# EAGLE library part SPH0645LM4H-B (library Knowles)
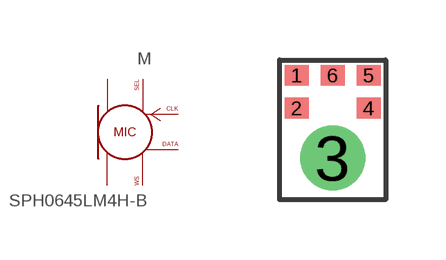
[diagram p0: symbol with the pads of SPH0645LM4H-B; footprint SPH0645LM4H-B]

Designator prefix M

## SPH0645LM4H-B  [SPH0645LM4H-B]
1  WS  pas
2  SEL  pas
3  GND  pas
4  CLK  pas
5  VCC  pas
6  DAT  pas

## Footprint SPH0645LM4H-B (pad centres in mm)
smd 0.6 x 0.522: 1 -0.9,2.074; 2 -0.9,1.252; 4 0.9,1.252; 5 0.9,2.074; 6 0,2.074
drill 1.025 pad 1.625: 3 0,0